# Altium schematic symbol library Antenna.SchLib: 19 symbols
Pins are listed as number, name and electrical type; pins without a type are passive.

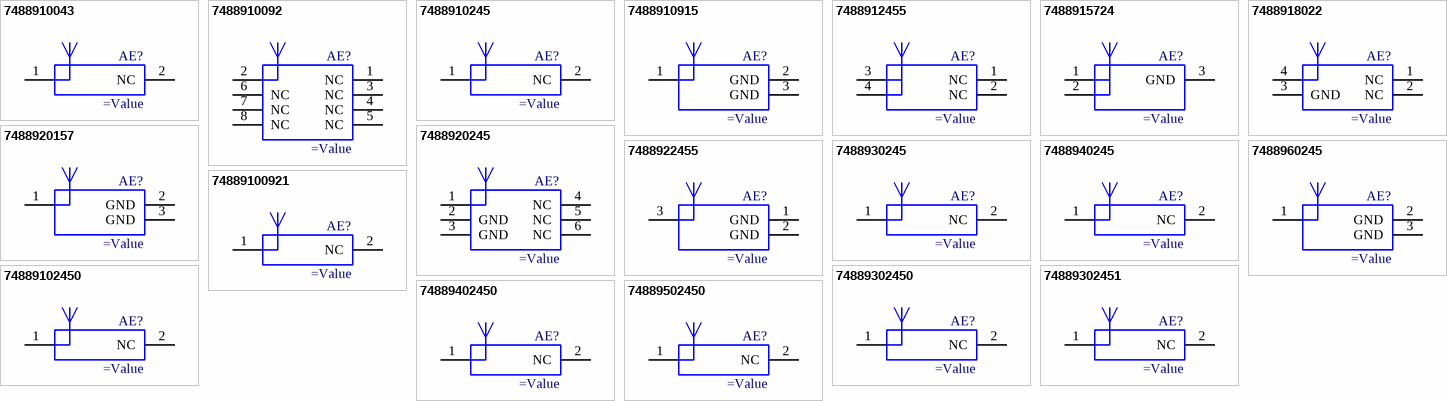
[diagram p0: symbols 7488910043 to 74889502450]

## 7488910043
designator AE?
pins: 1 Feed, 2 NC

## 7488910092
designator AE?
pins: 1 NC, 2 Feed, 3 NC, 4 NC, 5 NC, 6 NC, 7 NC, 8 NC

## 7488910245
designator AE?
pins: 1 Feed, 2 NC

## 7488910915
designator AE?
pins: 1 Feed, 2 GND, 3 GND

## 7488912455
designator AE?
pins: 1 NC, 2 NC, 3 Feed_Low Band, 4 Feed_High Band

## 7488915724
designator AE?
pins: 1 Feed1, 2 Feed2, 3 GND

## 7488918022
designator AE?
pins: 1 NC, 2 NC, 3 GND, 4 Feed

## 7488920157
designator AE?
pins: 1 Feed, 2 GND, 3 GND

## 7488920245
designator AE?
pins: 1 Feed, 2 GND, 3 GND, 4 NC, 5 NC, 6 NC

## 7488922455
designator AE?
pins: 1 GND, 2 GND, 3 Feed

## 7488930245
designator AE?
pins: 1 Feed, 2 NC

## 7488940245
designator AE?
pins: 1 Feed, 2 NC

## 7488960245
designator AE?
pins: 1 Feed, 2 GND, 3 GND

## 74889100921
designator AE?
pins: 1 Feed, 2 NC

## 74889102450
designator AE?
pins: 1 Feed, 2 NC

## 74889302450
designator AE?
pins: 1 Feed, 2 NC

## 74889302451
designator AE?
pins: 1 Feed, 2 NC

## 74889402450
designator AE?
pins: 1 Feed, 2 NC

## 74889502450
designator AE?
pins: 1 Feed, 2 NC